# EAGLE library part A6S-4104-H (library SpaceDIY_connectors)
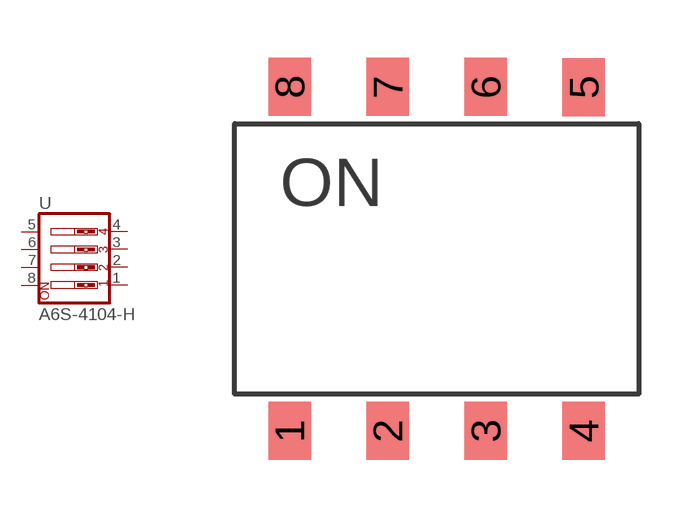
[diagram p1: symbol with the pads of A6S-4104-H; footprint A6S-4104-H]

Designator prefix -

## A6S-4104-H  [A6S-4104-H]
1  1  pas
2  2  pas
3  3  pas
4  4  pas
5  5  pas
6  6  pas
7  7  pas
8  8  pas

## Footprint A6S-4104-H (pad centres in mm)
smd 1.1 x 1.5: 1 -3.81,-4.45; 2 -1.27,-4.45; 3 1.27,-4.45; 4 3.81,-4.45; 5 3.81,4.44; 6 1.27,4.45; 7 -1.27,4.45; 8 -3.81,4.45